# EAGLE library part PIN2X5 (library __MyCommonLib1)
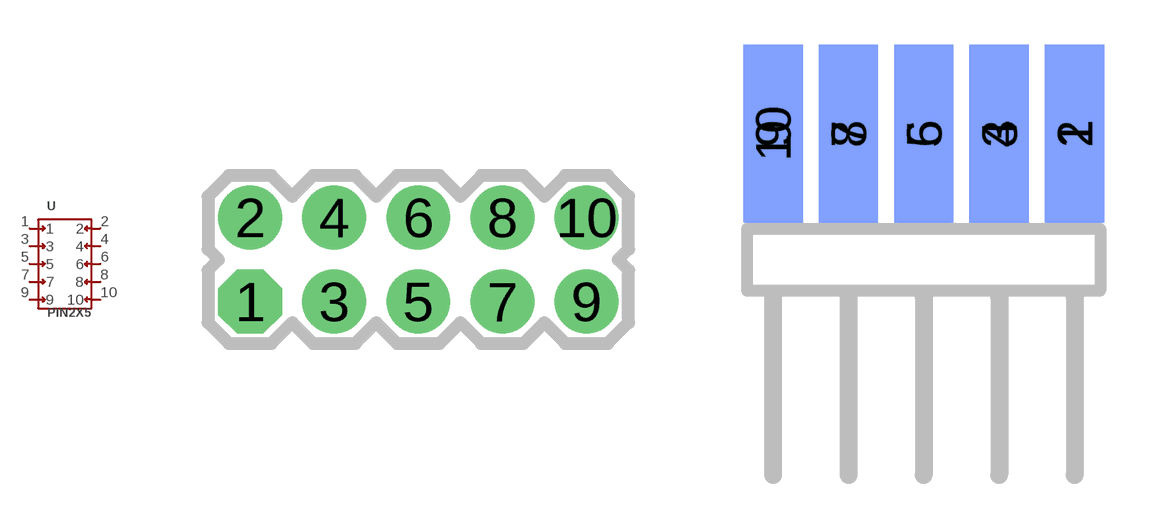
[diagram p1: symbol with the pads of PIN2X5_2.54MM; footprints PIN2X5_2.54MM, PIN2X5_2.54MM_MALE_SIDE_BOARD]

Designator prefix -

## PIN2X5_2.54MM  [PIN2X5_2.54MM]
1  1
2  2
3  3
4  4
5  5
6  6
7  7
8  8
9  9
10  10

## PIN2X5_2.54MM_SIDE_BOARD  [PIN2X5_2.54MM_MALE_SIDE_BOARD]
Pads as for PIN2X5_2.54MM

## Footprint PIN2X5_2.54MM (pad centres in mm)
drill 0.9 pad 1.93 octagon: 1 -5.08,-1.27
drill 0.9 pad 1.93: 2 -5.08,1.27; 3 -2.54,-1.27; 4 -2.54,1.27; 5 0,-1.27; 6 0,1.27; 7 2.54,-1.27; 8 2.54,1.27; 9 5.08,-1.27; 10 5.08,1.27

## Footprint PIN2X5_2.54MM_MALE_SIDE_BOARD (pad centres in mm)
smd 2 x 6: 1 5.08,3; 3 2.54,3; 5 0,3; 7 -2.54,3; 9 -5.08,3
smd 2 x 6 bottom: 2 5.08,3; 4 2.54,3; 6 0,3; 8 -2.54,3; 10 -5.08,3